# Altium schematic symbol library XL74C922.SchLib: 1 symbol
Pins are listed as number, name and electrical type; pins without a type are passive.

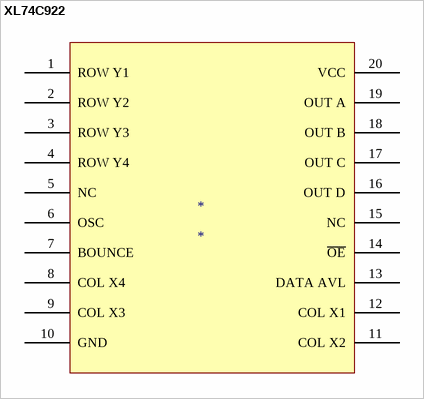
[diagram p0: symbol XL74C922]

## XL74C922
designator *
footprint XL74C922 (Footprint not found)
pins: 1 ROW Y1, 2 ROW Y2, 3 ROW Y3, 4 ROW Y4, 5 NC, 6 OSC, 7 BOUNCE, 8 COL X4, 9 COL X3, 10 GND, 11 COL X2, 12 COL X1, 13 DATA AVL, 14 ~{OE}, 15 NC, 16 OUT D, 17 OUT C, 18 OUT B, 19 OUT A, 20 VCC